# Altium footprint library 8mm_Inductor_THT.PcbLib: 1 footprints
Each footprint in its own frame and in the unit in brackets; x right, y up, seen from the top. Pads: shape width x height; smd on the part's side, far side on the other; paste and mask are expansions set on the pad; w line width, h text height; cw(c..) or ccw(c..) is an arc to the next point about the centre after c.
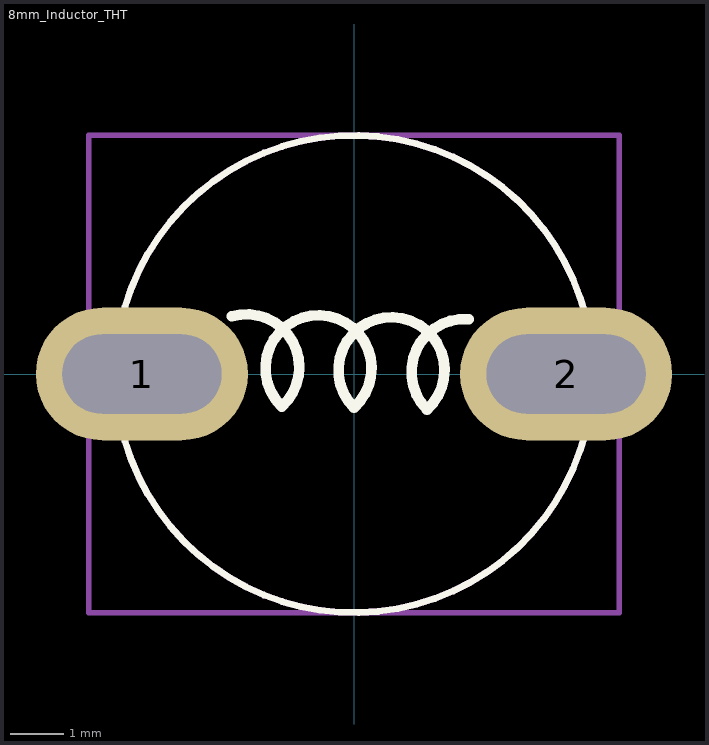
[diagram p0: the footprint, top view; thin cyan lines are the x and y axes]

## 8mm_Inductor_THT [mm] "8mm_Inductor_THT"
pads (2):
  rrect100% 4x2.5 hole 1.5 slot 3 at 0 deg paste-2 mask+0: 1(-4,0) 2(4,0)
Top Overlay:
  circle w0.127: c0,0 r4.5
  lines w0.2: -2.307,1.089 cw(c-2.032,0.127) -1.363,-0.616 ; -1.376,-0.599 cw(c-0.669,0.108) 0,-0.635 cw(c0.707,0.072) 1.376,-0.671 cw(c2.083,0.036) 2.16,1.033
Mechanical 1:
  circle w0.127: c0,0 r4.5
  lines w0.1: -5,-4.5 5,-4.5 5,4.5 -5,4.5 -5,-4.5
  text ".Designator" at 0,0.188 h1
Mechanical 15:
  text "+" at -0.333,-0.5 h1
3D body "Power Inductor RFC0807 Series.stp": height 8.4, standoff -3, extent -4.4,-4.4 4.4,4.4